# EAGLE library part FP1125P (library led-seg)
http://chipster.ru/catalog/optic/lcd-indicators/3345.html
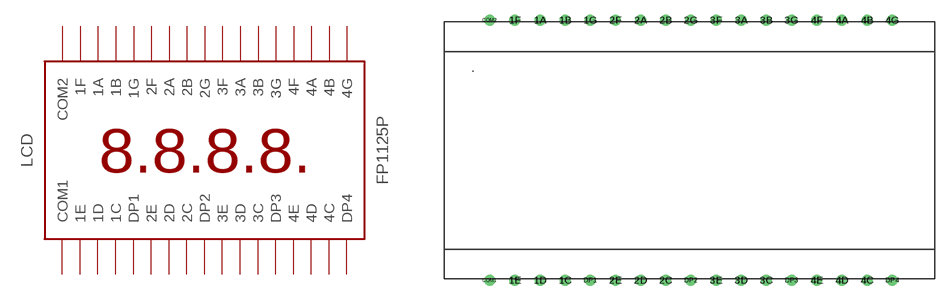
[diagram p17: symbol with the pads of FP1125P; footprint FP1125P]

Designator prefix LCD

## FP1125P  [FP1125P]
1A  1A  in
1B  1B  in
1C  1C  in
1D  1D  in
1E  1E  in
1F  1F  in
1G  1G  in
2A  2A  in
2B  2B  in
2C  2C  in
2D  2D  in
2E  2E  in
2F  2F  in
2G  2G  in
3A  3A  in
3B  3B  in
3C  3C  in
3D  3D  in
3E  3E  in
3F  3F  in
3G  3G  in
4A  4A  in
4B  4B  in
4C  4C  in
4D  4D  in
4E  4E  in
4F  4F  in
4G  4G  in
COM1  COM1  out
COM2  COM2  out
DP1  DP1  in
DP2  DP2  in
DP3  DP3  in
DP4  DP4  in

## Footprint FP1125P (pad centres in mm)
drill 0.6: 1A 9.66,26.15; 1B 12.2,26.15; 1C 12.2,-0.15; 1D 9.66,-0.15; 1E 7.12,-0.15; 1F 7.12,26.15; 1G 14.74,26.15; 2A 19.82,26.15; 2B 22.36,26.15; 2C 22.36,-0.15; 2D 19.82,-0.15; 2E 17.28,-0.15; 2F 17.28,26.15; 2G 24.9,26.15; 3A 29.98,26.15; 3B 32.52,26.15; 3C 32.52,-0.15; 3D 29.98,-0.15; 3E 27.44,-0.15; 3F 27.44,26.15; 3G 35.06,26.15; 4A 40.14,26.15; 4B 42.68,26.15; 4C 42.68,-0.15; 4D 40.14,-0.15; 4E 37.6,-0.15; 4F 37.6,26.15; 4G 45.22,26.15; COM1 4.58,-0.15; COM2 4.58,26.15; DP1 14.74,-0.15; DP2 24.9,-0.15; DP3 35.06,-0.15; DP4 45.22,-0.15